# Altium footprint library LM324.PcbLib: 1 footprints
Each footprint in its own frame and in the unit in brackets; x right, y up, seen from the top. Pads: shape width x height; smd on the part's side, far side on the other; paste and mask are expansions set on the pad; w line width, h text height; cw(c..) or ccw(c..) is an arc to the next point about the centre after c.
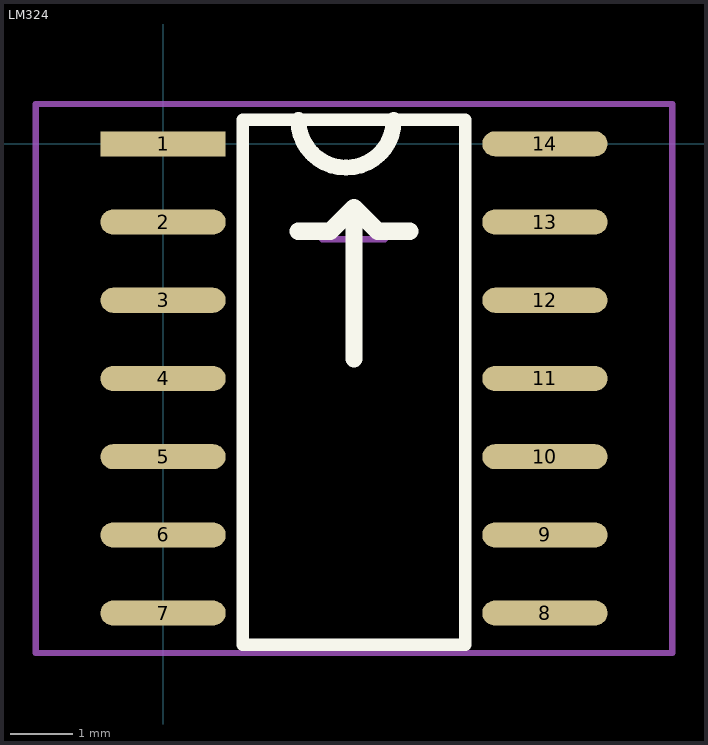
[diagram p0: the footprint, top view; thin cyan lines are the x and y axes]

## LM324 [mm]
pads (14):
  rect 2x0.4 smd: 1(0,0)
  oval 2x0.4 smd: 2(0,-1.249) 3(0,-2.498) 4(0,-3.746) 5(0,-4.995) 6(0,-6.244) 7(0,-7.493) 8(6.096,-7.493) 9(6.096,-6.244) 10(6.096,-4.995) 11(6.096,-3.746) 12(6.096,-2.498) 13(6.096,-1.249) 14(6.096,0)
Top Overlay:
  lines w0.2: 1.273,-8.001 1.273,0.381 4.826,0.381 4.826,-8.001 1.273,-8.001
  lines w0.254: 2.159,0.381 ccw(c2.921,0.381) 2.921,-0.381 ccw(c2.921,0.381) 3.683,0.381
  lines w0.278: 2.159,-1.397 2.667,-1.397 3.048,-1.016 ; 3.048,-3.429 3.048,-1.016 ; 3.937,-1.397 3.429,-1.397 3.048,-1.016
Mechanical 15:
  lines w0.1: 2.54,-1.524 3.54,-1.524 ; 3.027,-2.069 3.027,-1.069 ; -2.032,-8.128 -2.032,0.635 8.128,0.635 8.128,-8.128 -2.032,-8.128